# EAGLE library part 7491199332 (library WE-POE)
WE-PoE Power over Ethernet Transformer Characteristics Flyback transformer designed for PoE PDs Input voltage: 36 V to 57 V Switching frequencies: 200–500 kHz Operating temperature: –40 ºC to +125 ºC Isolation voltage: 1.5 kVAC/1 min Different output powers and voltages available Applications PoE powered devices IP Phones WLAN Access Points Access control terminals Security cameras <https://www.we-online.com/components/media/o766301v209%20Family-POE.jpg> Details see: www.we-online.com/en/components/products/WE-POE <www.we-online.com/catalog/WE-POE/?utm_source=eagle_model&utm_medium=description_link&utm_campaign=eisos_eagle> Updated by Ella 2024-01-09 2024 (C) Wurth Elektronik
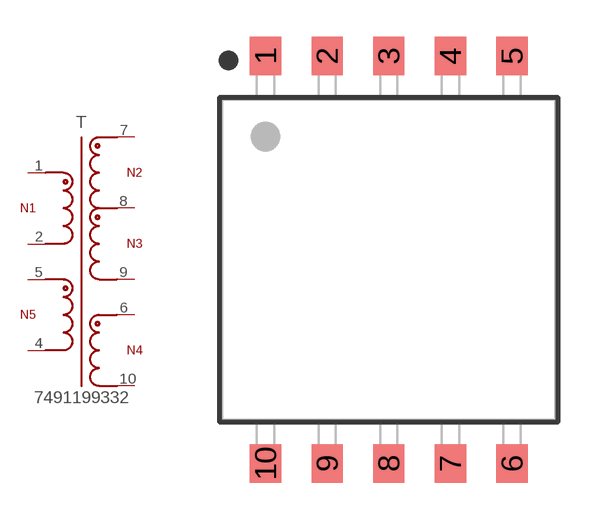
[diagram p21: symbol with the pads of WE-POE_EP13_L13.46W13H12.7; footprint WE-POE_EP13_L13.46W13H12.7]

Designator prefix T

## 7491199332 (DATASHEET-URL: https://www.we-online.com/redexpert/spec/7491199332?ae; IO1: 2A; IO2: 1A; IO3: 0.05A; L: 35uH; MOUNT: SMT; N: 9:1:1.5:2.5:4.5; PART-NUMBER: 7491199332; SIZE: EP13; VALUE: 7491199332; VERSION: Flyback; VIN: 36 - 57 V (DC); VO1: 3.3V; VO2: 5V; VO3: 5.5V; VT: 1500VAC)  [WE-POE_EP13_L13.46W13H12.7]
1  1  pas
2  2  pas
4  4  pas
5  5  pas
6  6  pas
7  7  pas
8  8  pas
9  9  pas
10  10  pas

## Footprint WE-POE_EP13_L13.46W13H12.7 (pad centres in mm)
WE-PoE Power over Ethernet Transformer EP13, SMT, 10Pins LXWXH=13.46X13X12.7mm
smd 1.27 x 1.55: 1 -5,8.275; 2 -2.5,8.275; 3 0,8.275; 4 2.5,8.275; 5 5,8.275; 6 5,-8.275; 7 2.5,-8.275; 8 0,-8.275; 9 -2.5,-8.275; 10 -5,-8.275